# Altium schematic symbol library Schemalibary.SchLib: 8 symbols
Pins are listed as number, name and electrical type; pins without a type are passive.

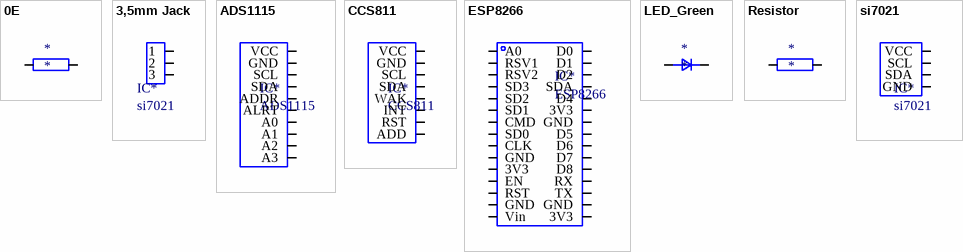
[diagram p0: symbols 0E to si7021]

## 0E
designator *
pins: 1, 2 SCL

## 3,5mm Jack
designator IC*, comment si7021
pins: 1, 2, 3

## ADS1115
designator IC*
pins: 1 VCC, 2 GND, 3 SCL, 4 SDA, 5 ADDR, 6 ALRT, 7 A0, 8 A1, 9 A2, 10 A3

## CCS811
designator IC*
pins: 1 VCC, 2 GND, 3 SCL, 4 SDA, 5 WAK, 6 INT, 7 RST, 8 ADD

## ESP8266
designator IC*
pins: 1 A0, 2 RSV1, 3 RSV2, 4 SD3, 5 SD2, 6 SD1, 7 CMD, 8 SD0, 9 CLK, 10 GND, 11 3V3, 12 EN, 13 RST, 15 GND, 15 Vin, 16 3V3, 17 GND, 18 TX, 19 RX, 20 D8, 21 D7, 22 D6, 23 D5, 24 GND, 25 3V3, 26 D4, 27 SDA, 28 D2, 29 D1, 30 D0

## LED_Green
designator *
pins: 1, 2 SCL

## Resistor
designator *
pins: 1, 2 SCL

## si7021
designator IC*
pins: 1 VCC, 2 SCL, 3 SDA, 4 GND